# Altium schematic symbol library диоды.SchLib: 64 symbols
Pins are listed as number, name and electrical type; pins without a type are passive.

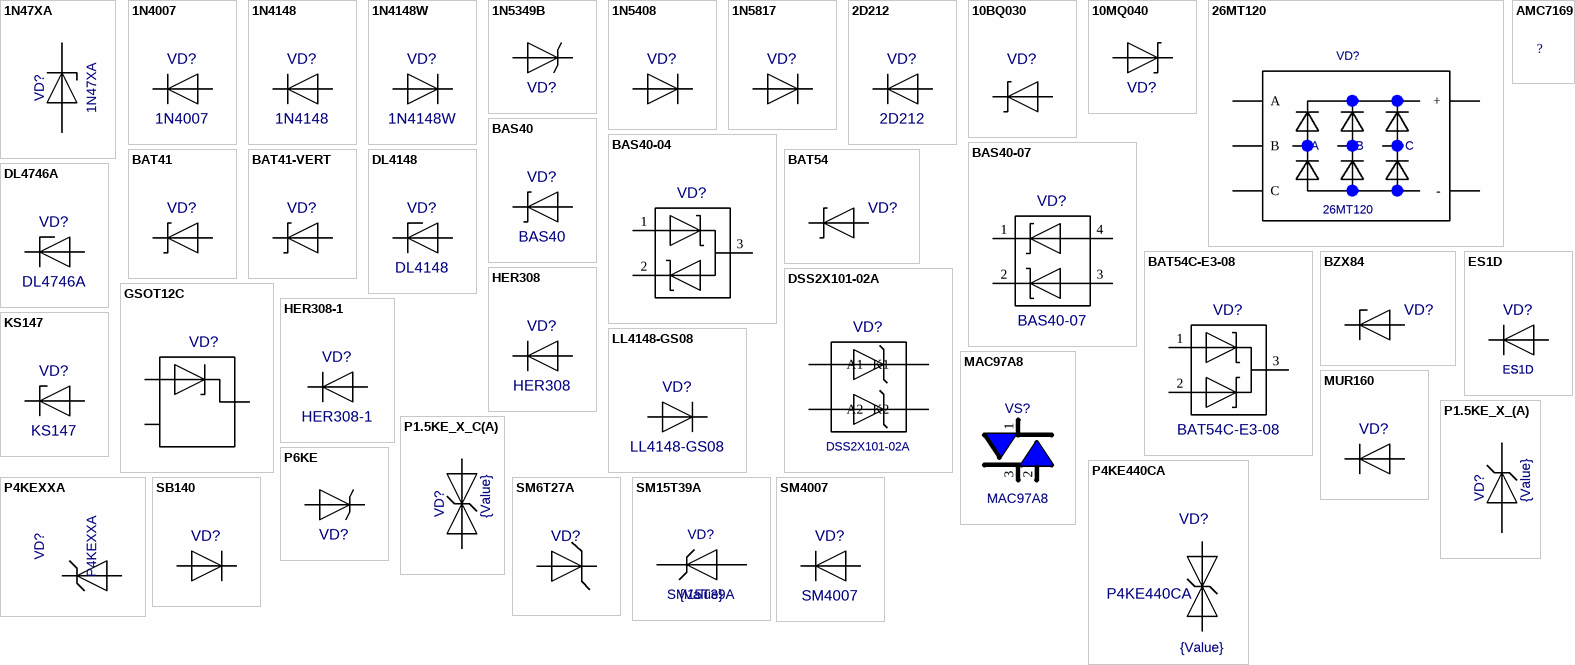
[diagram p0: symbols 1N47XA to SM4007]

## 1N47XA
designator VD?
Value: 1N47XA
footprint DO-41
pins: 1 A, 2 B

## 1N4007
designator VD?
Value: *
footprint 1N4007
pins: 1 A, 2 K

## 1N4148
designator VD?
Value: *
footprint DO-35
pins: 1 A, 2 K

## 1N4148W
designator VD?
Value: *
pins: 1 A, 2 K

## 1N5349B
designator VD?  (value not drawn)
Value: *
footprint DO-201AE
pins: 1 A, 2 K

## 1N5408
designator VD?  (value not drawn)
Value: *
footprint DO-201AD
pins: 1 A, 2 K

## 1N5817
designator VD?  (value not drawn)
Value: *
footprint DO-41
pins: 1 A, 2 K

## 2D212
designator VD?
Value: *
footprint 2D212
pins: 1 A, 2 K

## 10BQ030
designator VD?  (value not drawn)
Value: *
footprint SMB
pins: 1 A, 2 K

## 10MQ040
designator VD?  (value not drawn)
Value: *
footprint SMB
pins: 1 A, 2 K

## 26MT120
designator VD?
Value: *
pins: 1 A, 2 B, 3 C, 4 +, 5 -

## AMC7169
designator ?  (value not drawn)
Value: *
footprint AMC7169
pins: 1 hidden, 2 hidden

## BAS40
designator VD?
Value: BAS40
footprint SOT-23-(2)
pins: 1 A "Анод", 2 NC hidden "Не задейств.", 3 C "Катод"

## BAS40-04
designator VD?  (value not drawn)
Value: *
footprint SOT-23
pins: 1, 2, 3

## BAS40-07
designator VD?
Value: *
footprint SOT-143B
pins: 1, 2, 3, 4

## BAT41
designator VD?  (value not drawn)
Value: *
footprint DO-35
pins: 1 A, 2 K

## BAT41-VERT
designator VD?  (value not drawn)
Value: *
footprint VD-VER
pins: 1 A, 2 K

## BAT54
designator VD?  (value not drawn)
Value: *
footprint SOT-23-(2)
pins: A, K, NC hidden

## BAT54C-E3-08
designator VD?
Value: *
footprint SOT-23 (1-A1,2-A2,3-K)
pins: 1 A1, 2 A2, 3 K

## BZX84
designator VD?  (value not drawn)
Value: BZX84
footprint SOT-23-(2)
pins: 1 A, 2 NC hidden, 3 C

## DL4148
designator VD?
Value: *
footprint DL4148
pins: 1 A, 2 K

## DL4746A
designator VD?
Value: *
footprint DL-41
pins: 1 A, 2 K

## DSS2X101-02A
designator VD?
Value: {Value}
pins: 1 K1, 2 A1, 3 A2, 4 K2

## ES1D
designator VD?
Value: ES1D
footprint SMA
pins: 1 A, 2 K

## GSOT12C
designator VD?, comment GSOT12-E3-08  (value not drawn)
Single-line ESD protection device / ± 30 kV contact discharge / ± 30 kV air discharge; Value: *
footprint SOT-23-3
pins: 1, 2, 3

## HER308
designator VD?
Value: *
footprint HER308
pins: 1 A, 2 K

## HER308-1
designator VD?
Value: *
footprint HER308-1
pins: 1 A, 2 K

## KS147
designator VD?
Value: *
footprint DO-35
pins: 1 A, 2 K

## LL4148-GS08
designator VD?
Value: *
pins: 1 A, 2 K

## MAC97A8
designator VS?
Value: *
footprint TO-92
pins: 1, 2, 3

## MUR160
designator VD?  (value not drawn)
Value: *
footprint MUR160
pins: 1 A, 2 K

## P1.5KE_X_(A)
designator VD?  value {Value}  (hidden comment: P1.5KE_X_(A))
footprint DO-201AD
pins: 1 A, 2 C

## P1.5KE_X_C(A)
designator VD?  value {Value}  (hidden comment: P1.5KE_X_C(A))
footprint DO-201AD
pins: 1 A, 2 C

## P4KE440CA
designator VD?  value {Value}
footprint DO-41
pins: 1, 2

## P4KEXXA
designator VD?
Value: *
footprint DO-41
pins: 1 C, 2 A

## P6KE
designator VD?  (value not drawn)
Value: *
footprint DO-15
pins: 1 A, 2 K

## SB140
designator VD?  (value not drawn)
Value: *
footprint DO-41
pins: 1 A, 2 K

## SM6T27A
designator VD?  (value not drawn)
Value: SM6T27A
footprint SMB-STPS3L60U
pins: 1 A, 2 K

## SM15T39A
designator VD?  value {Value}
footprint SMC
pins: A, K

## SM4007
designator VD?
Value: *
footprint SM-1
pins: A, K

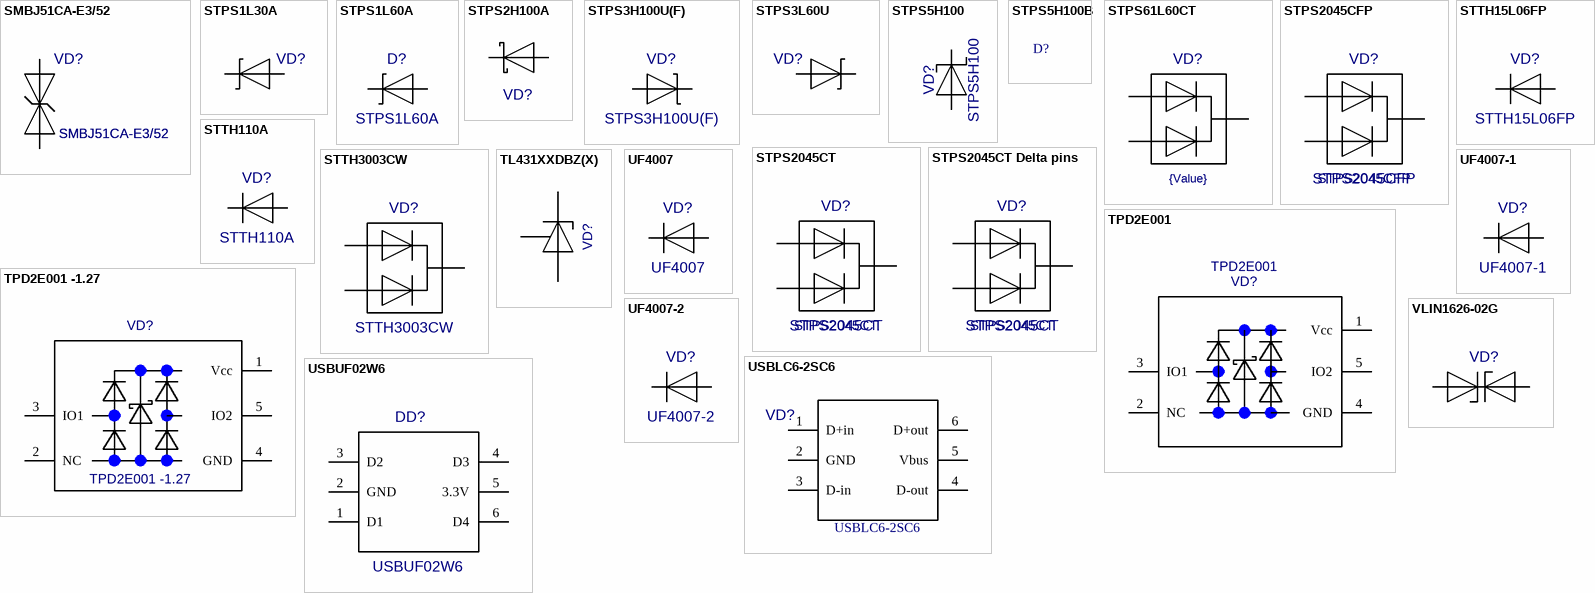
[diagram p1: symbols SMBJ51CA-E3/52 to VLIN1626-02G]

## SMBJ51CA-E3/52
designator VD?
SMB; Value: SMBJ51CA-E3/52
footprint SMB
pins: 1, 2

## STPS1L30A
designator VD?  (value not drawn)
Value: *
footprint SMA
pins: A, K

## STPS1L60A
designator D?
Value: *
footprint SMA
pins: A, K

## STPS2H100A
designator VD?  (value not drawn)
Value: *
footprint SMA
pins: A, K

## STPS3H100U(F)
designator VD?
Value: STPS3H100U(F)
footprint SMB
pins: 1 A, 2 C

## STPS3L60U
designator VD?  (value not drawn)
Value: *
footprint SMB-STPS3L60U
pins: 1 A, 2 K

## STPS5H100
designator VD?
Value: *
footprint DPAK
pins: 1 NC, 2 K, 3 A

## STPS5H100B
designator D?  (value not drawn)
Value: *
footprint DPAK

## STPS61L60CT
designator VD?  value {Value}  (hidden comment: STPS61L60CT)
footprint TO-220_HOR_19MM
pins: 1 A1, 2 K, 3 A2, 4 hidden

## STPS2045CFP
designator VD?
Value: STPS2045CFP
footprint TO-220FP Vertical
pins: 1 A1, 2 K, 3 A2

## STPS2045CT
designator VD?
Value: STPS2045CT
footprint TO-220AB Vertical
pins: 1 A1, 2 K, 3 A2

## STPS2045CT Delta pins
designator VD?, comment STPS2045CT
Value: STPS2045CT
footprint TO-220AB Vertical (delta)
pins: 1 A1, 2 K, 3 A2

## STTH15L06FP
designator VD?
Value: *
footprint TO-220V DIODE
pins: 1 A, 2 K

## STTH110A
designator VD?
Value: *
footprint SMA
pins: A, K

## STTH3003CW
designator VD?
Value: *
footprint TO-247 VERT
pins: 1 A1, 2 K, 3 A2

## TL431XXDBZ(X)
designator VD?  (value not drawn)
Value: *
footprint SOT-23-3
pins: A, K, Ref

## TPD2E001
designator VD?
Value: *
footprint 5SOT
pins: 1 Vcc, 2 NC, 3 IO1, 4 GND, 5 IO2

## TPD2E001 -1.27
designator VD?
Value: *
footprint 5SOT
pins: 1 Vcc, 2 NC, 3 IO1, 4 GND, 5 IO2

## UF4007
designator VD?
Value: *
footprint DO-41
pins: 1 A, 2 K

## UF4007-1
designator VD?
Value: *
footprint UF4007-1
pins: 1 A, 2 K

## UF4007-2
designator VD?
Value: *
footprint UF4007-2
pins: 1 A, 2 K

## USBLC6-2SC6
designator VD?
Value: USBLC6-2SC6
footprint SOT23-6
pins: 1 D+in, 2 GND, 3 D-in, 4 D-out, 5 Vbus, 6 D+out

## USBUF02W6
designator DD?
Value: *
pins: 1 D1, 2 GND, 3 D2, 4 D3, 5 3.3V, 6 D4

## VLIN1626-02G
designator VD?  (value not drawn)
Value: *
footprint SOD-323
pins: 1 A, 2 B